# Altium schematic symbol library NetConnector.SchLib: 1 symbol
Pins are listed as number, name and electrical type; pins without a type are passive.

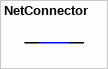
[diagram p0: symbol NetConnector]

## NetConnector
designator W?  (value not drawn)  (net tie, no BOM)
Net Connector
footprint NetConnector
pins: 1, 2